# EAGLE library part SQJ461 (library lfpak.mosfet)
MOSFET P SQJ461EP Specification Transistor Polarity: P Channel Continuous Drain Current Id: -30A Drain Source Voltage Vds: -60V On Resistance Rds(on): 0.013ohm Rds(on) Test Voltage Vgs: -10V Threshold Voltage Vgs Typ: -2V Power Dissipation Pd: 83W Operating Temperature Range: -55°C to +175°C Transistor Case Style: PowerPAK SO No. of Pins: 8 Voltage Vgs Max: -20V
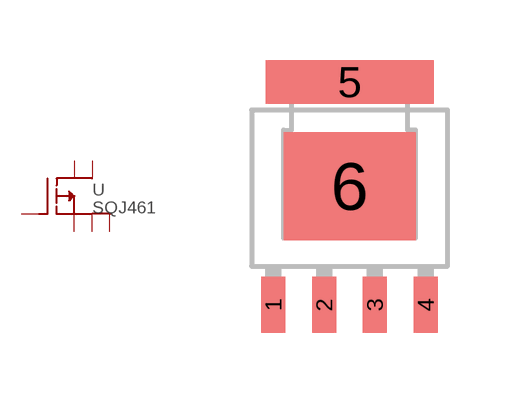
[diagram p7: symbol with the pads of LFPAC; footprint LFPAC]

Designator prefix -

## SQJ461 (MPN: SQJ461EP; OC_FARNELL: 1869924; PACKAGE: PwPAK SO08; SUPPLIER: VISHAY)  [LFPAC]
1  S1
2  S2
3  S3
4  G
5  D
6  D1

## Footprint LFPAC (pad centres in mm)
smd 0.6 x 1.4: 1 -1.905,-2.945; 2 -0.635,-2.945; 3 0.635,-2.945; 4 1.905,-2.945
smd 4.2 x 1.1: 5 0,2.625
smd 3.3 x 2.7: 6 0,0.025